# Altium footprint library Capacitor SMD.PcbLib: 8 footprints
Each footprint in its own frame and in the unit in brackets; x right, y up, seen from the top. Pads: shape width x height; smd on the part's side, far side on the other; paste and mask are expansions set on the pad; w line width, h text height; cw(c..) or ccw(c..) is an arc to the next point about the centre after c.
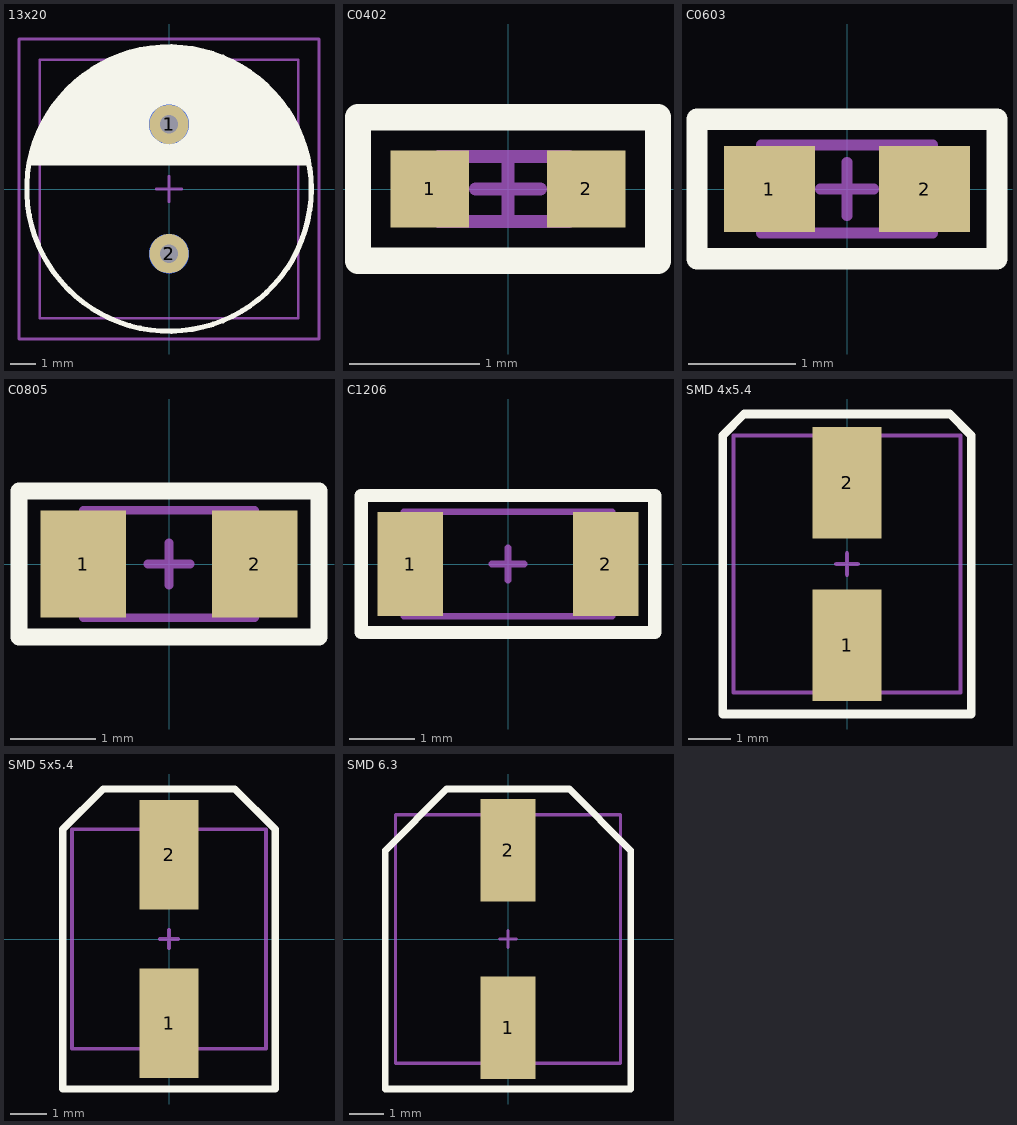
[diagram p0: the footprints below, top view; thin cyan lines are the x and y axes]

## 13x20 [mil]
pads (4):
  round 60 smd: 1(0,98.43) 2(0,-98.43)
  round 60 smd far side: 1(0,98.43) 2(0,-98.43)
via 0,98.43 diameter 50 hole 28
via 0,-98.43 diameter 50 hole 28
Top Overlay:
  circle w7.87: c0,0 r216.54
  region: -208.66,39.37 -208.66,55.12 -191.4,106.9 -153.32,155.14 -76.64,205.59 -0.01,216.53 85.57,201.66 150.12,158.31 200.71,86.53 212.6,39.37
  region: 192.91,90.55
  lines w7.87: -208.66,39.37 208.66,39.37
Top Assy:
  lines w3.94: -196.85,-196.85 196.85,-196.85 196.85,196.85 -196.85,196.85 -196.85,-196.85
Border:
  lines w3.94: -19.68,0 19.68,0 ; 0,-19.68 0,19.68 ; -228.35,-228.35 228.35,-228.35 228.35,228.35 -228.35,228.35 -228.35,-228.35
3D body "User Library-Cap-EL(10x16-5)T.step": height 649.68, standoff -98.43, extent -196.75,-196.85 196.75,196.94

## C0402 [mm]
pads (2):
  rect 0.6x0.59 smd: 1(-0.6,0) 2(0.6,0)
Top Overlay:
  lines w0.2: -1.15,-0.55 1.15,-0.55 1.15,0.55 -1.15,0.55 -1.15,-0.55
Top Assy:
  lines w0.1: -0.532,-0.25 -0.532,0.25 0.468,0.25 0.468,-0.25 -0.532,-0.25
Border:
  lines w0.1: -0.25,0 0.25,0 ; 0,-0.25 0,0.25 ; -1.15,-0.55 1.15,-0.55 1.15,0.55 -1.15,0.55 -1.15,-0.55
3D body "User Library-SMD Ceramic Capacitors_0402 (1005)_BD.step": height 0.55, standoff 0, extent -0.5,-0.25 0.501,0.25

## C0603 [mm]
pads (2):
  rect 0.85x0.8 smd: 1(-0.725,0) 2(0.725,0)
Top Overlay:
  lines w0.2: -1.4,-0.65 1.4,-0.65 1.4,0.65 -1.4,0.65 -1.4,-0.65
Top Assy:
  lines w0.1: -0.8,-0.41 -0.8,0.41 0.8,0.41 0.8,-0.41 -0.8,-0.41
Border:
  lines w0.1: -0.25,0 0.25,0 ; 0,-0.25 0,0.25 ; -1.4,-0.65 1.4,-0.65 1.4,0.65 -1.4,0.65 -1.4,-0.65
3D body "User Library-SMD Ceramic Capacitors_0603 (1608)_CJ.step": height 0.8, standoff 0, extent -0.8,-0.4 0.801,0.4

## C0805 [mm]
pads (2):
  rect 1x1.25 smd: 1(-1,0) 2(1,0)
Top Overlay:
  lines w0.2: -1.75,-0.85 -1.75,0.85 1.75,0.85 1.75,-0.85 -1.75,-0.85
Top Assy:
  lines w0.1: -1,-0.625 -1,0.625 1,0.625 1,-0.625 -1,-0.625
Border:
  lines w0.1: -0.25,0 0.25,0 ; 0,-0.25 0,0.25 ; -1.75,-0.85 -1.75,0.85 1.75,0.85 1.75,-0.85 -1.75,-0.85
3D body "User Library-SMD Ceramic Capacitors_0805 (2012)_DM.step": height 0.7, standoff 0, extent -1,-0.625 1.001,0.625

## C1206 [mm]
pads (2):
  rect 1x1.6 smd: 1(-1.5,0) 2(1.5,0)
Top Overlay:
  lines w0.2: -2.25,-1.05 -2.25,1.05 2.25,1.05 2.25,-1.05 -2.25,-1.05
Top Assy:
  lines w0.1: -1.6,-0.8 1.6,-0.8 1.6,0.8 -1.6,0.8 -1.6,-0.8
Border:
  lines w0.1: -0.25,0 0.25,0 ; 0,-0.25 0,0.25 ; -2.25,-1.05 -2.25,1.05 2.25,1.05 2.25,-1.05 -2.25,-1.05
3D body "User Library-SMD Ceramic Capacitors_1206 (3216)_EB.step": height 0.78, standoff 0, extent -1.64,-0.8 1.64,0.8

## SMD 4x5.4 [mm]
pads (2):
  rect 1.6x2.6 smd: 1(0,-1.9)
  rect 1.6x2.6 smd mask+0.102: 2(0,1.9)
Top Overlay:
  lines w0.2: -2.9,-3.5 -2.9,3 -2.4,3.5 2.4,3.5 2.9,3 2.9,-3.5 -2.9,-3.5
Top Assy:
  lines w0.1: -2.65,-3 -2.65,3 2.65,3 2.65,-3 -2.65,-3
Border:
  lines w0.1: -0.25,0 0.25,0 ; 0,-0.25 0,0.25 ; -2.9,-3.5 -2.9,3 -2.4,3.5 2.4,3.5 2.9,3 2.9,-3.5 -2.9,-3.5
3D body "User Library-9D.step": height 6.42, standoff 0, extent -2.65,-3 2.65,3

## SMD 5x5.4 [mm]
pads (2):
  rect 1.6x3 smd: 1(0,-2.3)
  rect 1.6x3 smd mask+0.102: 2(0,2.3)
Top Overlay:
  lines w0.2: -2.9,-4.1 -2.9,3 -1.8,4.1 1.8,4.1 2.9,3 2.9,-4.1 -2.9,-4.1
Top Assy:
  lines w0.1: -2.65,-3 -2.65,3 2.65,3 2.65,-3 -2.65,-3
Border:
  lines w0.1: -0.25,0 0.25,0 ; 0,-0.25 0,0.25 ; -2.9,-4.1 -2.9,3 -1.8,4.1 1.8,4.1 2.9,3 2.9,-4.1 -2.9,-4.1
3D body "5x5.4 (1).step": height 6.42, standoff 0, extent -2.65,-3 2.65,3

## SMD 6.3 [mm]
pads (2):
  rect 1.6x3 smd: 1(0,-2.6)
  rect 1.6x3 smd mask+0.102: 2(0,2.6)
Top Overlay:
  lines w0.2: -3.6,-4.4 3.6,-4.4 3.6,2.6 1.8,4.4 -1.8,4.4 -3.6,2.6 -3.6,-4.4
Top Assy:
  lines w0.1: -3.3,-3.65 3.3,-3.65 3.3,3.65 -3.3,3.65 -3.3,-3.65
Border:
  lines w0.1: -0.25,0 0.25,0 ; 0,-0.25 0,0.25 ; -3.6,-4.4 3.6,-4.4 3.6,2.6 1.8,4.4 -1.8,4.4 -3.6,2.6 -3.6,-4.4
3D body "User Library-CAP SMD SVP 6_3x5_9.STEP": height 5.9, standoff 0, extent -3.3,-3.65 3.3,3.65